# Altium footprint library PcbLib.PcbLib: 22 footprints (part 1 of 2)
Each footprint in its own frame and in the unit in brackets; x right, y up, seen from the top. Pads: shape width x height; smd on the part's side, far side on the other; paste and mask are expansions set on the pad; w line width, h text height; cw(c..) or ccw(c..) is an arc to the next point about the centre after c.
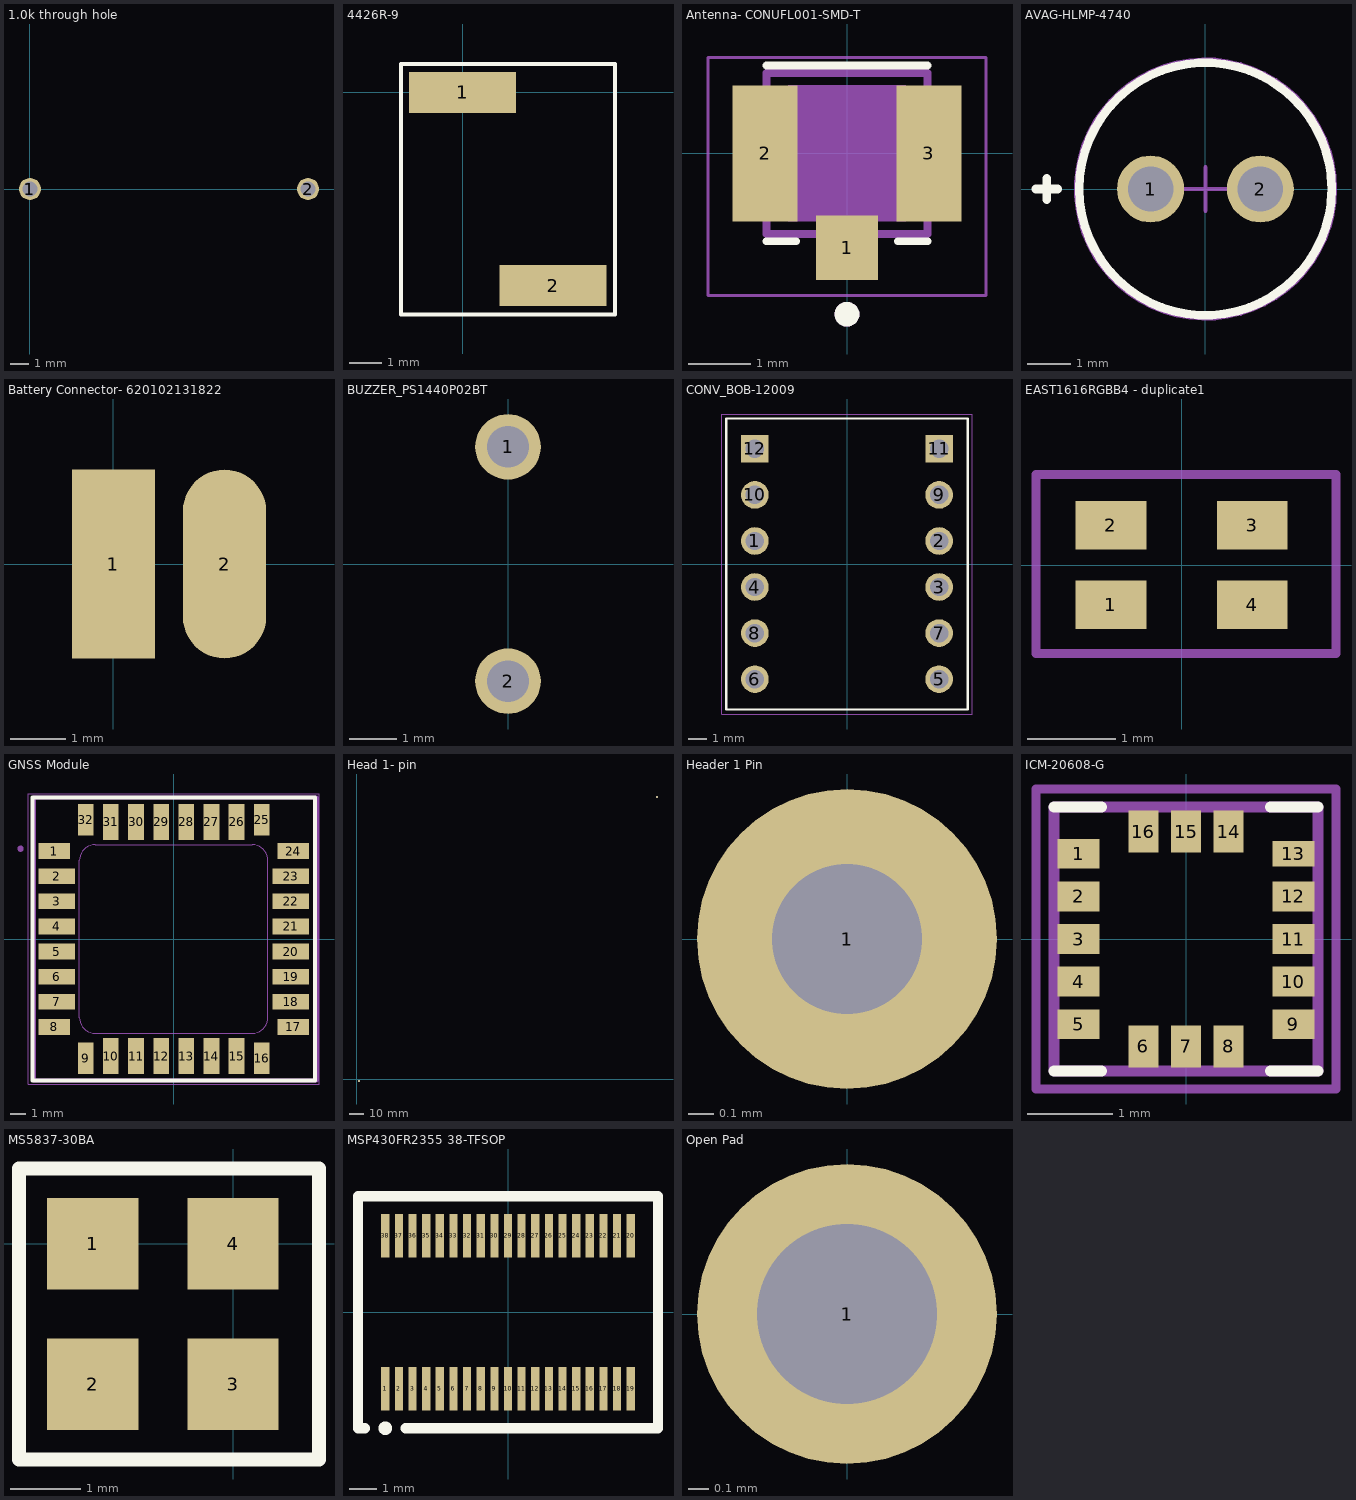
[diagram p0: the footprints below, top view; thin cyan lines are the x and y axes]

## 1.0k through hole [mm]
pads (2):
  round 1.2 hole 0.8: 1(0,0) 2(15.2,0)

## 4426R-9 [mm] "Inductor"
pads (2):
  rect 3.3x1.27 smd: 1(0,0) 2(2.79,-5.96)
Top Overlay:
  lines w0.127: -1.9,-6.85 4.7,-6.85 4.7,0.875 -1.9,0.875 -1.9,-6.85

## Antenna- CONUFL001-SMD-T [mm]
pads (3):
  rect 1x1.05 smd: 1(0,-1.525)
  rect 1.05x2.2 smd: 2(-1.325,0) 3(1.325,0)
Top Overlay:
  circle w0.2: c0,-2.6 r0.1
  lines w0.127: -1.3,-1.42 -0.82,-1.42 ; -1.3,1.42 1.3,1.42 ; 0.82,-1.42 1.3,-1.42
Mechanical 13:
  circle w0.2: c0,-2.6 r0.1
  region: 0.95,-1.1 -0.95,-1.1 -0.95,1.1 0.95,1.1
  lines w0.127: -1.3,-1.3 1.3,-1.3 1.3,1.3 -1.3,1.3 -1.3,-1.3
Mechanical 15:
  lines w0.05: -2.25,-2.3 2.25,-2.3 2.25,1.55 -2.25,1.55 -2.25,-2.3

## AVAG-HLMP-4740 [mm] "THD, 2-Leads, Dia 5.845mm, Pitch 2.54mm"
pads (2):
  round 1.55 hole 1.05: 1(-1.27,0) 2(1.27,0)
Top Overlay:
  circle w0.2: c0,0 r2.923
  lines w0.2: -3.922,0 -3.423,0 ; -3.672,-0.25 -3.672,0.25
Mechanical 13:
  circle w0.1: c0,0 r2.923
Mechanical 15:
  circle w0.05: c0,0 r3.023
  lines w0.1: -0.5,0 0.5,0 ; 0,-0.5 0,0.5

## Battery Connector- 620102131822 [mm]
pads (2):
  rect 1.5x3.4 smd: 1(0,0)
  oval 1.5x3.4 smd: 2(2,0)

## BUZZER_PS1440P02BT [mm]
pads (2):
  round 1.398 hole 0.89: 1(0,2.5) 2(0,-2.5)

## CONV_BOB-12009 [mil]
pads (12):
  round 60 hole 40: 1(-200,50) 2(200,50) 3(200,-50) 4(-200,-50) 5(200,-250) 6(-200,-250) 7(200,-150) 8(-200,-150) 9(200,150) 10(-200,150)
  rect 60x60 hole 40: 11(200,250) 12(-200,250)
Top Overlay:
  lines w5: -262.4,-315.94 -262.4,315.94 262.4,315.94 262.4,-315.94 -262.4,-315.94
Mechanical 15:
  lines w1.97: -272.24,-325.79 272.24,-325.79 272.24,325.79 -272.24,325.79 -272.24,-325.79

## EAST1616RGBB4 - duplicate1 [mm]
pads (4):
  rect 0.8x0.55 smd: 1(-0.8,-0.45) 2(-0.8,0.45) 3(0.8,0.45) 4(0.8,-0.45)
Top Assembly:
  lines w0.1: -1.65,-1 1.75,-1 1.75,1.025 -1.65,1.025 -1.65,-1
  text "'.Designator'" at -1.525,-0.025 h0.3

## GNSS Module [mm]
height 6.35
pads (32):
  rect 2x1 smd mask+0.1: 1(-7.6,5.6) 8(-7.6,-5.6) 17(7.6,-5.6) 24(7.6,5.6)
  rect 2.3x1 smd mask+0.1: 2(-7.45,4) 3(-7.45,2.4) 4(-7.45,0.8) 5(-7.45,-0.8) 6(-7.45,-2.4) 7(-7.45,-4) 18(7.45,-4) 19(7.45,-2.4) 20(7.45,-0.8) 21(7.45,0.8) 22(7.45,2.4) 23(7.45,4)
  rect 1x2 smd mask+0.1: 9(-5.6,-7.6) 16(5.6,-7.6) 25(5.6,7.6) 32(-5.6,7.6)
  rect 1x2.3 smd mask+0.1: 10(-4,-7.45) 11(-2.4,-7.45) 12(-0.8,-7.45) 13(0.8,-7.45) 14(2.4,-7.45) 15(4,-7.45) 26(4,7.45) 27(2.4,7.45) 28(0.8,7.45) 29(-0.8,7.45) 30(-2.4,7.45) 31(-4,7.45)
Top Overlay:
  lines w0.254: -9,-9 -9,9 9,9 9,-9 -9,-9
Mechanical 1:
  lines w0: -6,-5 ccw(c-5,-5) -5,-6 5,-6 ccw(c5,-5) 6,-5 6,5 ccw(c5,5) 5,6 -5,6 ccw(c-5,5) -6,5 -6,-5
Top Assembly:
  lines w0.254: -8.9,-9 -8.9,9 9.1,9 9.1,-9 -8.9,-9
  text "'.Designator'" at -4.2,0.133 h0.7
Mechanical 13:
  circle w0.2: c-9.75,5.75 r0.1
  lines w0.127: -9,-9 9,-9 9,9 -9,9 -9,-9
Mechanical 15:
  lines w0.05: -9.25,-9.25 9.25,-9.25 9.25,9.25 -9.25,9.25 -9.25,-9.25
3D body "step_temp.STEP": height 6.2, standoff 0, extent -9,-9 9,9

## Head 1- pin [mil]
pads (2):
  round 60 hole 30: 2(69.88,-47.24) 3(8377.95,7875.98)

## Header 1 Pin [mm]
pads (1):
  round 1.2 hole 0.6: 1(0,0)

## ICM-20608-G [mm]
pads (16):
  rect 0.49x0.35 smd: 1(-1.26,1) 2(-1.26,0.5) 3(-1.26,0) 4(-1.26,-0.5) 5(-1.26,-1) 9(1.26,-1) 10(1.26,-0.5) 11(1.26,0) 12(1.26,0.5)
  rect 0.35x0.49 smd: 6(-0.5,-1.26) 7(0,-1.26) 8(0.5,-1.26) 14(0.5,1.26) 15(0,1.26) 16(-0.5,1.26)
  rect 0.49x0.3 smd: 13(1.26,1)
Top Overlay:
  lines w0.127: -1.55,-1.55 -0.99,-1.55 ; -1.55,1.55 -0.99,1.55 ; 0.99,-1.55 1.55,-1.55 ; 0.99,1.55 1.55,1.55
Top Assembly:
  lines w0.1: -1.76,-1.76 1.76,-1.76 1.76,1.76 -1.76,1.76 -1.76,-1.76
  text "'.Designator'" at -1.71,0.15 h0.3
Mechanical 13:
  lines w0.127: -1.55,-1.55 1.55,-1.55 1.55,1.55 -1.55,1.55 -1.55,-1.55
Mechanical 15:
  lines w0.05: -1.76,-1.76 1.76,-1.76 1.76,1.76 -1.76,1.76 -1.76,-1.76
3D body "step_temp.STEP": height 0.8, standoff 0, extent -1.5,-1.5 1.5,1.5

## MS5837-30BA [mm]
pads (4):
  rect 1.3x1.3 smd: 1(-2,0) 2(-2,-2) 3(0,-2) 4(0,0)
Top Overlay:
  lines w0.2: -3.05,-3.075 -3.05,1.075 1.225,1.075 1.225,-3.075 -3.05,-3.075

## MSP430FR2355 38-TFSOP [mm]
pads (38):
  rect 0.3x1.6 smd paste-0.025 mask+0.05: 1(-4.5,-2.8) 2(-4,-2.8) 3(-3.5,-2.8) 4(-3,-2.8) 5(-2.5,-2.8) 6(-2,-2.8) 7(-1.5,-2.8) 8(-1,-2.8) 9(-0.5,-2.8) 10(0,-2.8) 11(0.5,-2.8) 12(1,-2.8) 13(1.5,-2.8) 14(2,-2.8) 15(2.5,-2.8) 16(3,-2.8) 17(3.5,-2.8) 18(4,-2.8) 19(4.5,-2.8) 20(4.5,2.8) 21(4,2.8) 22(3.5,2.8) 23(3,2.8) 24(2.5,2.8) 25(2,2.8) 26(1.5,2.8) 27(1,2.8) 28(0.5,2.8) 29(0,2.8) 30(-0.5,2.8) 31(-1,2.8) 32(-1.5,2.8) 33(-2,2.8) 34(-2.5,2.8) 35(-3,2.8) 36(-3.5,2.8) 37(-4,2.8) 38(-4.5,2.8)
Top Overlay:
  circle w0.25: c-4.5,-4.25 r0.125
  lines w0.381: -3.75,-4.25 5.5,-4.25 5.5,4.25 -5.5,4.25 -5.5,-4.25 ; -5.5,-4.25 -5.5,-4.25 ; -5.5,-4.25 -5.25,-4.25 ; -5.25,-4.25 -5.25,-4.25
3D body: height 1.2, standoff 0.05, extent -4.9,-2.2 4.9,2.2

## Open Pad [mm]
pads (1):
  round 1.5 hole 0.9: 1(0,0)

## PCBComponent_1 [mm]